# Altium integrated library HTLinn_Miscellaneous.IntLib: 19 symbols
Pins are listed as number, name and electrical type; pins without a type are passive.

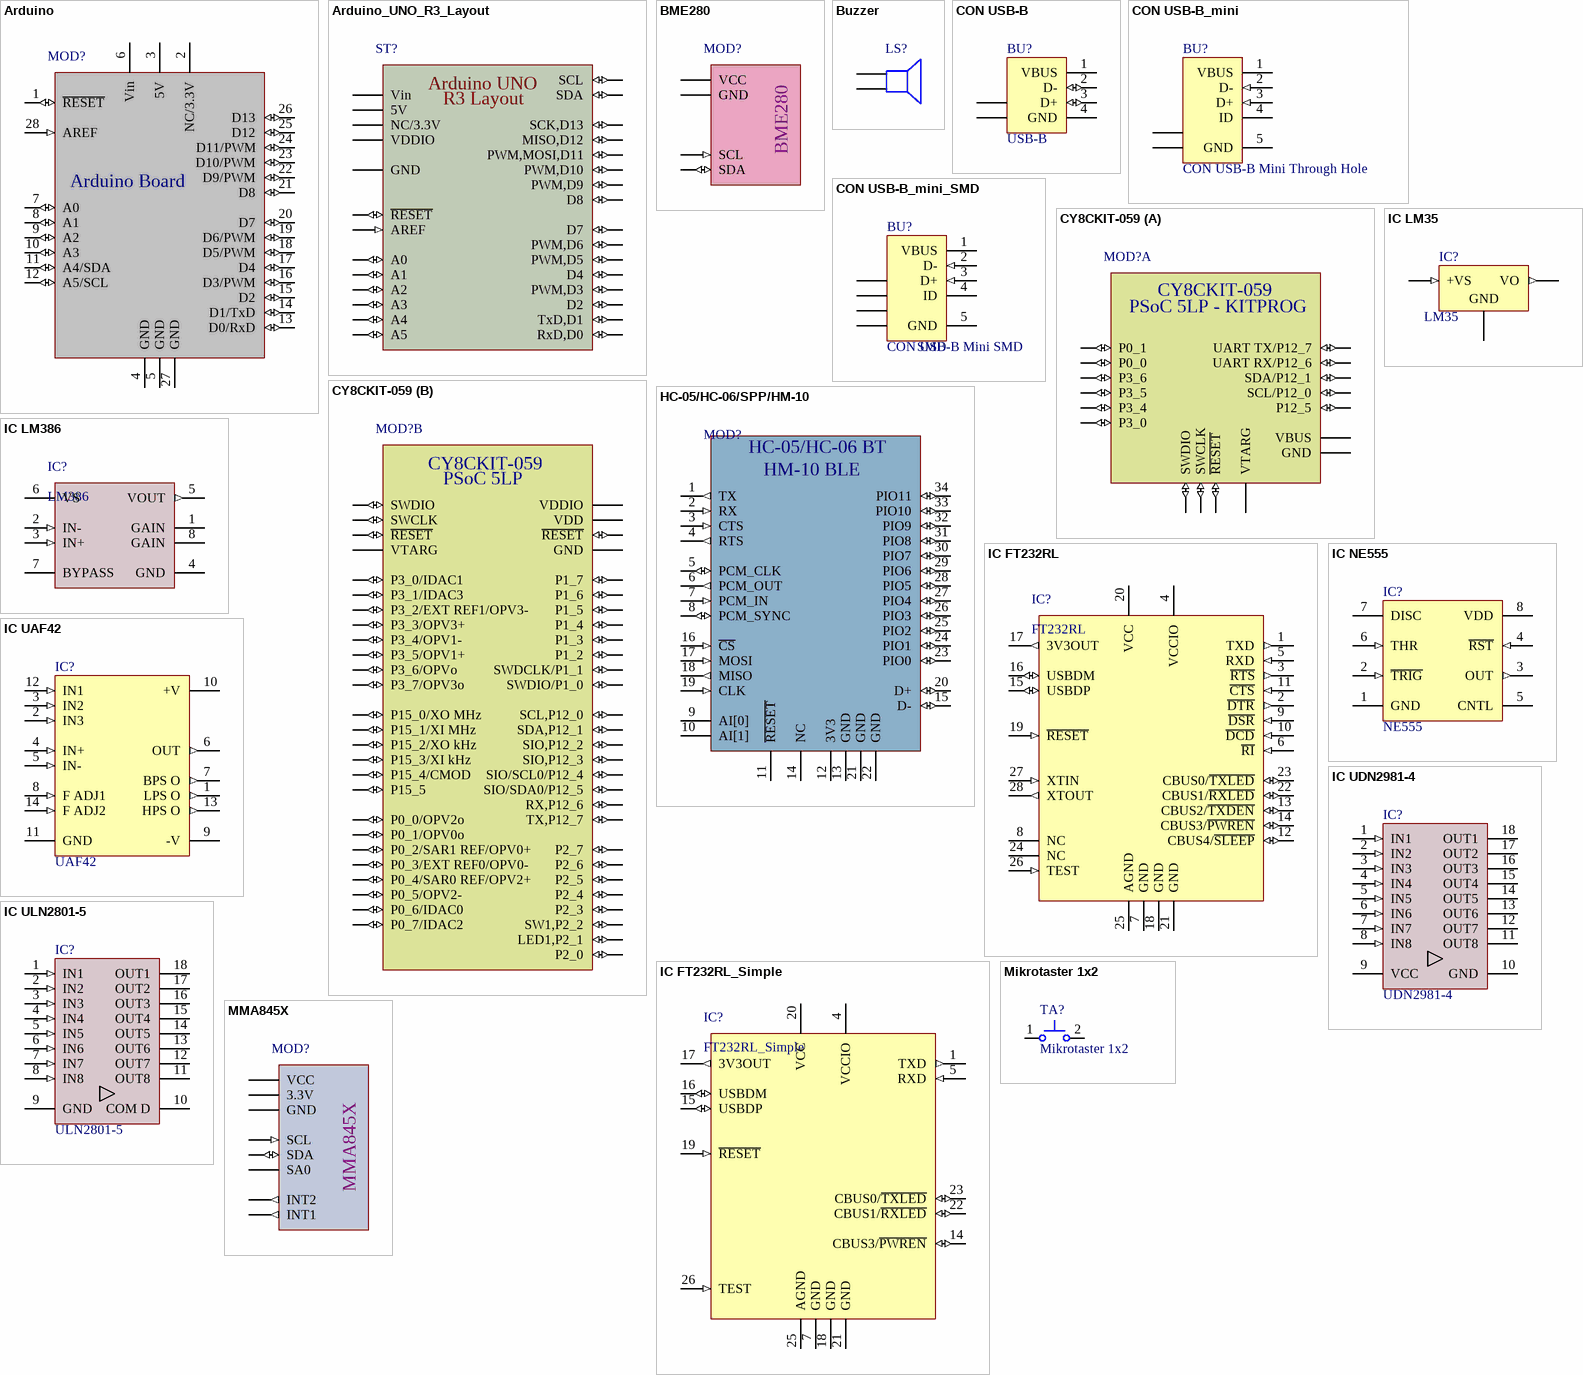
[diagram p0: symbols Arduino to MMA845X]

## Arduino
designator MOD?  (value not drawn)
Arduino Board; Usage: only permitted for non-commercial purposes at HTL I Innsbruck; Publisher: Michael Kupfner; Published: 19-Jul-2014; LatestRevisionDate: 07-Sep-2019
footprint Arduino
footprint Arduino - Shield (Full) (for Arduino Boards)
pins: 1 ~{RESET} (io), 2 NC/3.3V (power), 3 5V (power), 4 GND (power), 5 GND (power), 6 Vin (power), 7 A0 (io), 8 A1 (io), 9 A2 (io), 10 A3 (io), 11 A4/SDA (io), 12 A5/SCL (io), 13 D0/RxD (io), 14 D1/TxD (io), 15 D2 (io), 16 D3/PWM (io), 17 D4 (io), 18 D5/PWM (io), 19 D6/PWM (io), 20 D7 (io), 21 D8 (io), 22 D9/PWM (io), 23 D10/PWM (io), 24 D11/PWM (io), 25 D12 (io), 26 D13 (io), 27 GND (power), 28 AREF (in)

## Arduino_UNO_R3_Layout
designator ST?  (value not drawn)
Arduino UNO r3 Layout; Usage: only permitted for non-commercial purposes at HTL I Innsbruck; Publisher: Michael Kupfner; Published: 10-Mar-2015; LatestRevisionDate: 10-Mar-2015
footprint Arduino UNO Rev3 Layout (Arduino UNO Rev3 Headers)
pins: 5V (power), 33V NC/3.3V (power), A0 (io), A1 (io), A2 (io), A3 (io), A4 (io), A5 (io), AREF (in), D0_RX RxD,D0 (io), D1_TX TxD,D1 (io), D2 (io), D3 PWM,D3 (io), D4 (io), D5 PWM,D5 (io), D6 PWM,D6 (io), D7 (io), D8 (io), D9 PWM,D9 (io), D10 PWM,D10 (io), D11_MOSI PWM,MOSI,D11 (io), D12_MISO MISO,D12 (io), D13_SCK SCK,D13 (io), GND (power), RESET ~{RESET} (io), SCL (io), SDA (io), VDDIO (power), VIN Vin (power)
text: Arduino UNO; R3 Layout

## BME280
designator MOD?  (value not drawn)
Bosch BME280 Module GY-BME280-3.3; Usage: only permitted for non-commercial purposes at HTL I Innsbruck; Published: 06-Jan-2018; Publisher: Michael Kupfner; LatestRevisionDate: 06-Jan-2018
footprint BME280 (GY-BME280-3.3 Module)
pins: 1 VCC (power), 2 GND (power), 3 SCL (in), 4 SDA (io)

## Buzzer
designator LS?, comment Buzzer/Speaker  (value not drawn)
Loudspeaker/Buzzer; Usage: only permitted for non-commercial purposes at HTL I Innsbruck; SimulationModellSource: <<no SimModell found so far>>; Published: 21-Feb-2011; LatestRevisionDate: 21-Feb-2011
footprint Buzzer.2/.4
pins: 1, 2

## CON USB-B
designator BU?, comment USB-B
USB 2.0, Right Angle, B Type; SimulationModellSource: <no SimModell found so far>; Usage: only permitted for non-commercial purposes at HTL I Innsbruck; LatestRevisionDate: 29-Oct-2013; Published: 29-Oct-2013
footprint Con_USB_B (Connector; USB1.1, Type B, Thru-Hole; 4 Position; Right Angle)
pins: 1 VBUS (power) "Power", 2 D- (io) "-DATA", 3 D+ (io) "+DATA", 4 GND (power) "Ground", 5 SHLD "Shield", 6 SHLD "Shield"

## CON USB-B_mini
designator BU?, comment CON USB-B Mini Through Hole
USB 2.0, Right Angle, SMT, B Type, Receptacle; SimulationModellSource: <no SimModell found so far>; Usage: only permitted for non-commercial purposes at HTL I Innsbruck; Published: 29-Oct-2013; LatestRevisionDate: 29-Oct-2013
footprint CON_USB_B_mini_ThroughHole (32005-601)
signal-integrity model USB2.0
footprint CON_USB_B_mini_ThroughHole_2
pins: 1 VBUS (power) "Power", 2 D- (in) "-DATA", 3 D+ (in) "+DATA", 4 ID, 5 GND (power), 6 SHLD "Shield", 7 SHLD "Shield"

## CON USB-B_mini_SMD
designator BU?, comment CON USB-B Mini SMD
USB 2.0, Right Angle, SMT, B Type, Receptacle; SimulationModellSource: <no SimModell found so far>; Usage: only permitted for non-commercial purposes at HTL I Innsbruck; Published: 29-Oct-2013; LatestRevisionDate: 29-Oct-2013
footprint CON_USB_B_mini (Connector; USB2.0, Type B, SM; 5 Position; Right Angle)
signal-integrity model USB2.0
pins: 1 VBUS (power) "Power", 2 D- (in) "-DATA", 3 D+ (in) "+DATA", 4 ID, 5 GND (power), 6 SHLD "Shield", 7 SHLD "Shield", 8 SHLD "Shield", 9 SHLD "Shield"
text: SMD

## CY8CKIT-059
designator MOD?  (value not drawn)
CY8CKIT-059 PSoC 5LP Prototyping Kit; Usage: only permitted for non-commercial purposes at HTL I Innsbruck; Publisher: Michael Kupfner; Published: 10-Mar-2015; LatestRevisionDate: 06-Jan-2022
footprint CY8CKIT-059 (Cypress PSoC5LP Prototyping Kit)
footprint CY8CKIT-059_3D (Cypress PSoC5LP Prototyping Kit)
part A pins: GND_KITPROG GND (power), P0_0_KITPROG P0_0 (io), P0_1_KITPROG P0_1 (io), P3_0_KITPROG P3_0 (io), P3_4_KITPROG P3_4 (io), P3_5_KITPROG P3_5 (io), P3_6_KITPROG P3_6 (io), P12_0_KITPROG SCL/P12_0 (io), P12_1_KITPROG SDA/P12_1 (io), P12_5_KITPROG P12_5 (io), P12_6_KITPROG UART RX/P12_6 (io), P12_7_KITPROG UART TX/P12_7 (io), RESET_KITPROG ~{RESET} (io), SWCLK_KITPROG SWCLK (io), SWDIO_KITPROG SWDIO (io), VBUS_KITPROG VBUS (power), VTARG_KITPROG VTARG (power)
part B pins: GND (power), P0_0 P0_0/OPV2o (io), P0_1 P0_1/OPV0o (io), P0_2 P0_2/SAR1 REF/OPV0+ (io), P0_3 P0_3/EXT REF0/OPV0- (io), P0_4 P0_4/SAR0 REF/OPV2+ (io), P0_5 P0_5/OPV2- (io), P0_6 P0_6/IDAC0 (io), P0_7 P0_7/IDAC2 (io), P1_0 SWDIO/P1_0 (io), P1_1 SWDCLK/P1_1 (io), P1_2 (io), P1_3 (io), P1_4 (io), P1_5 (io), P1_6 (io), P1_7 (io), P2_0 (io), P2_1 LED1,P2_1 (io), P2_2 SW1,P2_2 (io), P2_3 (io), P2_4 (io), P2_5 (io), P2_6 (io), P2_7 (io), P3_0 P3_0/IDAC1 (io), P3_1 P3_1/IDAC3 (io), P3_2 P3_2/EXT REF1/OPV3- (io), P3_3 P3_3/OPV3+ (io), P3_4 P3_4/OPV1- (io), P3_5 P3_5/OPV1+ (io), P3_6 P3_6/OPVo (io), P3_7 P3_7/OPV3o (io), P12_0 SCL,P12_0 (io), P12_1 SDA,P12_1 (io), P12_2 SIO,P12_2 (io), P12_3 SIO,P12_3 (io), P12_4 SIO/SCL0/P12_4 (io), P12_5 SIO/SDA0/P12_5 (io), P12_6 RX,P12_6 (io), P12_7 TX,P12_7 (io), P15_0 P15_0/XO MHz (io), P15_1 P15_1/XI MHz (io), P15_2 P15_2/XO kHz (io), P15_3 P15_3/XI kHz (io), P15_4 P15_4/CMOD (io), P15_5 (io), RESET ~{RESET} (io), RESET_PROG ~{RESET} (io), SWCLK_PROG SWCLK (io), SWDIO_PROG SWDIO (io), VDD (power), VDDIO (power), VTARG_PROG VTARG (power)
part A text: PSoC 5LP - KITPROG
part B text: PSoC 5LP

## HC-05/HC-06/SPP/HM-10
designator MOD?  (value not drawn)
Bluetooth Modul SMD HC05/HC06/SPP/HM10; Usage: only permitted for non-commercial purposes at HTL I Innsbruck; Published: 06-Jan-2018; Publisher: Michael Kupfner; LatestRevisionDate: 31-Oct-2018
footprint BLUETOOTH_HC05_HC06_SMD (BLUETOOTH MODULE HC05/HC06 SMD)
pins: 1 TX (out), 2 RX (in), 3 CTS (in), 4 RTS (out), 5 PCM_CLK (io), 6 PCM_OUT (out), 7 PCM_IN (in), 8 PCM_SYNC (io), 9 AI[0], 10 AI[1], 11 ~{RESET}, 12 3V3 (power), 13 GND (power), 14 NC, 15 D- (io), 16 ~{CS} (in), 17 MOSI (in), 18 MISO (out), 19 CLK (in), 20 D+ (io), 21 GND (power), 22 GND (power), 23 PIO0 (io), 24 PIO1 (io), 25 PIO2 (io), 26 PIO3 (io), 27 PIO4 (io), 28 PIO5 (io), 29 PIO6 (io), 30 PIO7 (io), 31 PIO8 (io), 32 PIO9 (io), 33 PIO10 (io), 34 PIO11 (io)
text: HC-05/HC-06 BT; HM-10 BLE

## IC FT232RL
designator IC?, comment FT232RL
USB <-> Serial Bridge; Usage: only permitted for non-commercial purposes at HTL I Innsbruck; Publisher: Michael Kupfner; Published: 21-Feb-2011; LatestRevisionDate: 19-Nov-2012
footprint SSOP-28-FTDI (28-Pin SSOP 0.65 mm Pitch)
pins: 1 TXD (out), 2 ~{DTR} (out), 3 ~{RTS} (out), 4 VCCIO (power), 5 RXD (in), 6 ~{RI} (in), 7 GND (power), 8 NC, 9 ~{DSR} (in), 10 ~{DCD} (in), 11 ~{CTS} (in), 12 CBUS4/~{SLEEP} (io), 13 CBUS2/~{TXDEN} (io), 14 CBUS3/~{PWREN} (io), 15 USBDP (io), 16 USBDM (io), 17 3V3OUT (out), 18 GND (power), 19 ~{RESET} (in), 20 VCC (power), 21 GND (power), 22 CBUS1/~{RXLED} (io), 23 CBUS0/~{TXLED} (io), 24 NC, 25 AGND (power), 26 TEST (in), 27 XTIN (in), 28 XTOUT (out)

## IC FT232RL_Simple
designator IC?, comment FT232RL_Simple
USB <-> Serial Bridge; Usage: only permitted for non-commercial purposes at HTL I Innsbruck; Publisher: Michael Kupfner; Published: 21-Feb-2011; LatestRevisionDate: 19-Nov-2012
footprint SSOP-28 - simple - FTDI (28-Pin SSOP 0.65 mm Pitch)
pins: 1 TXD (out), 4 VCCIO (power), 5 RXD (in), 7 GND (power), 14 CBUS3/~{PWREN} (io), 15 USBDP (io), 16 USBDM (io), 17 3V3OUT (out), 18 GND (power), 19 ~{RESET} (in), 20 VCC (power), 21 GND (power), 22 CBUS1/~{RXLED} (io), 23 CBUS0/~{TXLED} (io), 25 AGND (power), 26 TEST (in)

## IC LM35
designator IC?, comment LM35
Precision Centigrade Temperature Sensor; SimulationModellSource: <no SIM modell found yet >; Usage: only permitted for non-commercial purposes at HTL I Innsbruck; Published: 27-Sep-2011; LatestRevisionDate: 19-Nov-2012
footprint TO-92A-1 (TO, Flat Index; 3 In-Line, Axial Leads; Body Dia. 4.5mm; Leads 0.51 x 0.48 mm (max)); pin to pad GND>3 VO>2 VS>1
footprint TO-92A-2 (TO, Flat Index; 3 In-Line, Axial Leads; Body Dia. 4.5mm; Leads 0.51 x 0.48 mm (max)); pin to pad GND>3 VO>2 VS>1
footprint TO-92A-3 (TO, Flat Index; 3 In-Line, Axial Leads; Body Dia. 4.5mm; Leads 0.51 x 0.48 mm (max)); pin to pad GND>3 VO>2 VS>1
pins: GND (power), VO (out), VS +VS (in)

## IC LM386
designator IC?, comment LM386
Low Voltage Audio Power Amplifier; Usage: only permitted for non-commercial purposes at HTL I Innsbruck; Published: 19-Nov-2012; LatestRevisionDate: 29-Mar-2017; SimulationModellSource: http://www.siue.edu/~gengel/ece476WebStuff/LM386.cir
footprint DIP08 (DIP; 8 Leads; Row Spacing 7.62 mm; Pitch 2.54 mm)
simulation model LM386 (LM386 Audio power amplifier)
pins: 1 GAIN, 2 IN- (in), 3 IN+ (in), 4 GND (power), 5 VOUT (out), 6 VS (power), 7 BYPASS, 8 GAIN

## IC NE555
designator IC?, comment NE555
Timer 555; Usage: only permitted for non-commercial purposes at HTL I Innsbruck; SimulationModellSource: *** v8: SIM Modell removed *** if needed, see Altium SPICE Examples; Published: 21-Feb-2011; LatestRevisionDate: 13-Mar-2018
footprint DIP08 (DIP; 8 Leads; Row Spacing 7.62 mm; Pitch 2.54 mm)
pins: 1 GND (power), 2 ~{TRIG} (in), 3 OUT (out), 4 ~{RST} (in), 5 CNTL, 6 THR (in), 7 DISC (oc), 8 VDD (power)

## IC UAF42
designator IC?, comment UAF42
Universal Active Filter; Usage: only permitted for non-commercial purposes at HTL I Innsbruck; SimulationModellSource: BB Universal Active Filter; Published: 21-Feb-2011; LatestRevisionDate: 19-Nov-2012
footprint DIP14 (DIP; 14 Leads; Row Spacing 7.62 mm; Pitch 2.54 mm)
simulation model UAF42 (SUBCKT)
pins: 1 LPS O (out), 2 IN3 (in), 3 IN2 (in), 4 IN+ (in), 5 IN- (in), 6 OUT (out), 7 BPS O (out), 8 F ADJ1 (in), 9 -V (power), 10 +V (power), 11 GND (power), 12 IN1 (in), 13 HPS O (out), 14 F ADJ2 (in)

## IC UDN2981-4
designator IC?, comment UDN2981-4
Eight Channel Source Drivers; Usage: only permitted for non-commercial purposes at HTL I Innsbruck; SimulationModellSource: <No SimModell found so far>; Published: 03-Jun-2011; LatestRevisionDate: 19-Nov-2012
footprint DIP18 (DIP; 18 Leads; Row Spacing 7.62 mm; Pitch 2.54 mm)
pins: 1 IN1 (in), 2 IN2 (in), 3 IN3 (in), 4 IN4 (in), 5 IN5 (in), 6 IN6 (in), 7 IN7 (in), 8 IN8 (in), 9 VCC (power), 10 GND, 11 OUT8 (oc), 12 OUT7 (oc), 13 OUT6 (oc), 14 OUT5 (oc), 15 OUT4 (oc), 16 OUT3 (oc), 17 OUT2 (oc), 18 OUT1 (oc)

## IC ULN2801-5
designator IC?, comment ULN2801-5
Eight Darlington Array; Usage: only permitted for non-commercial purposes at HTL I Innsbruck; SimulationModellSource: <No SimModell found so far>; Published: 21-Feb-2011; LatestRevisionDate: 19-Nov-2012
footprint DIP18 (DIP; 18 Leads; Row Spacing 7.62 mm; Pitch 2.54 mm)
pins: 1 IN1 (in), 2 IN2 (in), 3 IN3 (in), 4 IN4 (in), 5 IN5 (in), 6 IN6 (in), 7 IN7 (in), 8 IN8 (in), 9 GND (power), 10 COM D, 11 OUT8 (oc), 12 OUT7 (oc), 13 OUT6 (oc), 14 OUT5 (oc), 15 OUT4 (oc), 16 OUT3 (oc), 17 OUT2 (oc), 18 OUT1 (oc)

## Mikrotaster 1x2
designator TA?
Mikrotaster 1x2; max DC 50V; Usage: only permitted for non-commercial purposes at HTL I Innsbruck; SimulationModellSource: <No SimModell found so far>; Published: 29-Mar-2017; LatestRevisionDate: 07-Sep-2019; Publisher: Michael Kupfner
footprint SW_DTSM-61NT/R - 1x2 (Switch, Push Button, Thru-Hole; 4 Leads; Body 8.5 x 8.5 mm (LxW typ); Row Spacing 9.0 mm; Pitch 4.5 mm)
pins: 1, 2

## MMA845X
designator MOD?  (value not drawn)
Freescale 3-Axis, 14-bit/8-bit Digital Accelerometer; Usage: only permitted for non-commercial purposes at HTL I Innsbruck; Published: 31-Oct-2018; Publisher: Michael Kupfner; LatestRevisionDate: 31-Oct-2018
footprint MMA845X (3-Axis, 14-bit/8-bit Digital Accelerometer Module)
pins: 1 INT1 (out), 2 INT2 (out), 3 SA0, 4 SDA (io), 5 SCL (in), 6 GND (power), 7 3.3V (power), 8 VCC (power)